# EAGLE library part IP5306 (library khanh_ic_function)
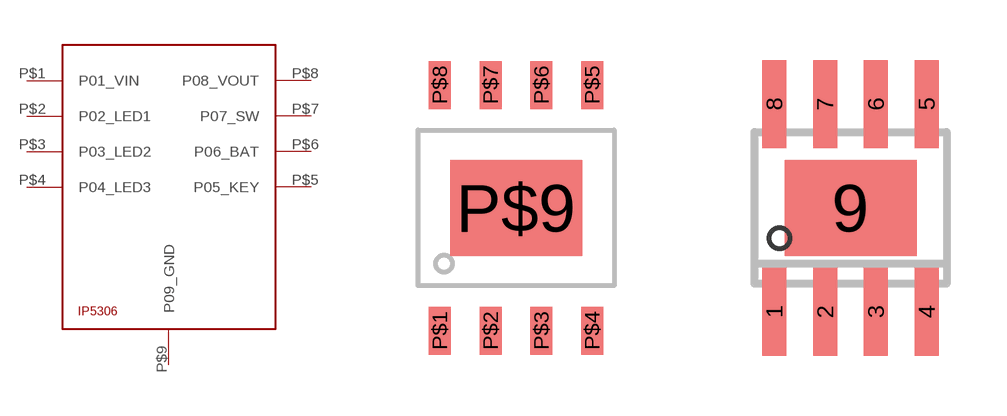
[diagram p0: symbol with the pads of IP5306; footprints IP5306, TEST_ESOP8]

Designator prefix -

## IP5306  [IP5306]
P$1  P01_VIN
P$2  P02_LED1
P$3  P03_LED2
P$4  P04_LED3
P$5  P05_KEY
P$6  P06_BAT
P$7  P07_SW
P$8  P08_VOUT
P$9  P09_GND

## IP5306_2  [TEST_ESOP8]
1  P01_VIN
2  P02_LED1
3  P03_LED2
4  P04_LED3
5  P05_KEY
6  P06_BAT
7  P07_SW
8  P08_VOUT
9  P09_GND

## Footprint IP5306 (pad centres in mm)
smd 0.55 x 1.2: P$1 -1.905,-3.075; P$2 -0.635,-3.075; P$3 0.635,-3.075; P$4 1.905,-3.075; P$5 1.905,3.075; P$6 0.635,3.075; P$7 -0.635,3.075; P$8 -1.905,3.075
smd 3.3 x 2.4: P$9 0,0

## Footprint TEST_ESOP8 (pad centres in mm)
smd 0.6 x 2.2: 1 -1.905,-2.6; 2 -0.635,-2.6; 3 0.635,-2.6; 4 1.905,-2.6; 5 1.905,2.6; 6 0.635,2.6; 7 -0.635,2.6; 8 -1.905,2.6
smd 3.3 x 2.4: 9 0,0